# EAGLE library part MICROSD (library bt_electromech)
MicroSD Card Socket
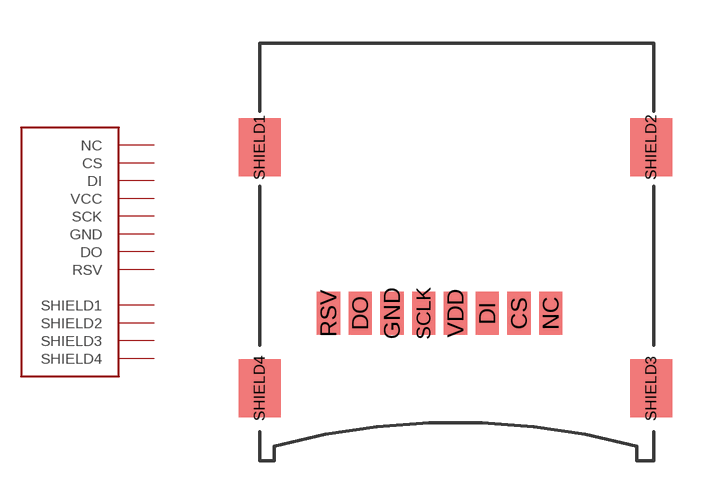
[diagram p0: symbol with the pads of TFLASH_CP-0000-086; footprint TFLASH_CP-0000-086]

Designator prefix -

## MICROSD_TFLASH  [TFLASH_CP-0000-086]
CS  CS
DI  DI
DO  DO
GND  GND
NC  NC
RSV  RSV
SCLK  SCK
SHIELD1  SHIELD1
SHIELD2  SHIELD2
SHIELD3  SHIELD3
SHIELD4  SHIELD4
VDD  VCC

## Footprint TFLASH_CP-0000-086 (pad centres in mm)
smd 0.8 x 1.5: CS 8.98,2.6; DI 7.88,2.6; DO 3.48,2.6; GND 4.58,2.6; NC 10.08,2.6; RSV 2.38,2.6; SCLK 5.68,2.6; VDD 6.78,2.6
smd 1.45 x 2: SHIELD1 0,8.35; SHIELD2 13.56,8.35; SHIELD3 13.56,0; SHIELD4 0,0